# EAGLE library part 74*4059 (library df4iah_74xxx)
74HC(T)4059 - BCD divider
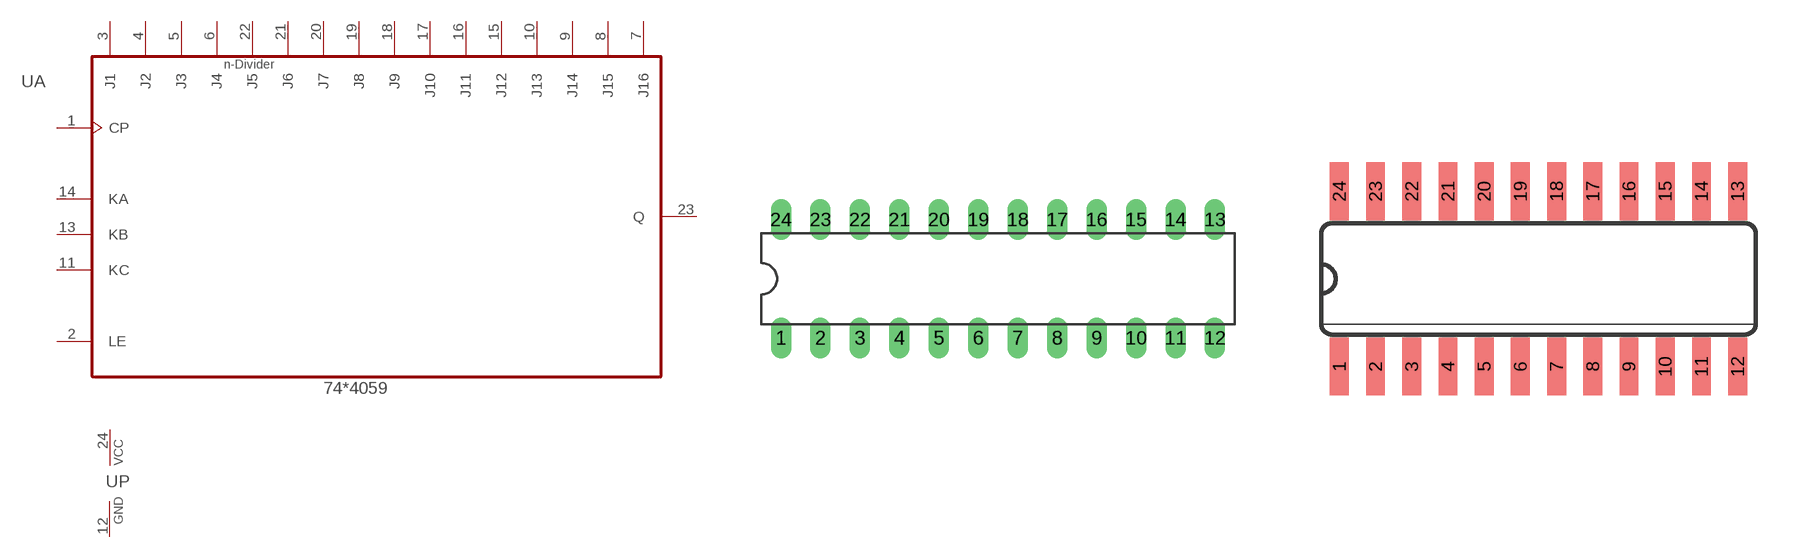
[diagram p17: symbol with the pads of DIL24; footprints DIL24, SO24]

Designator prefix U; gates A=744059 P=PWRN

## 744059N  [DIL24]
1  A:CP  in
2  A:LE  in
3  A:J1  in
4  A:J2  in
5  A:J3  in
6  A:J4  in
7  A:J16  in
8  A:J15  in
9  A:J14  in
10  A:J13  in
11  A:KC  in
12  P:GND  pwr
13  A:KB  in
14  A:KA  in
15  A:J12  in
16  A:J11  in
17  A:J10  in
18  A:J9  in
19  A:J8  in
20  A:J7  in
21  A:J6  in
22  A:J5  in
23  A:Q  out
24  P:VCC  pwr

## 744059M  [SO24]
Pads as for DIL24

## Footprint DIL24 (pad centres in mm)
Dual In Line Package
drill 0.813 long: 1 -13.97,-3.81; 2 -11.43,-3.81; 3 -8.89,-3.81; 4 -6.35,-3.81; 5 -3.81,-3.81; 6 -1.27,-3.81; 7 1.27,-3.81; 8 3.81,-3.81; 9 6.35,-3.81; 10 8.89,-3.81; 11 11.43,-3.81; 12 13.97,-3.81; 13 13.97,3.81; 14 11.43,3.81; 15 8.89,3.81; 16 6.35,3.81; 17 3.81,3.81; 18 1.27,3.81; 19 -1.27,3.81; 20 -3.81,3.81; 21 -6.35,3.81; 22 -8.89,3.81; 23 -11.43,3.81; 24 -13.97,3.81

## Footprint SO24 (pad centres in mm)
Small Outline package 150 mil
smd 0.66 x 2.032: 1 -6.985,-3.073; 2 -5.715,-3.073; 3 -4.445,-3.073; 4 -3.175,-3.073; 5 -1.905,-3.073; 6 -0.635,-3.073; 7 0.635,-3.073; 8 1.905,-3.073; 9 3.175,-3.073; 10 4.445,-3.073; 11 5.715,-3.073; 12 6.985,-3.073; 13 6.985,3.073; 14 5.715,3.073; 15 4.445,3.073; 16 3.175,3.073; 17 1.905,3.073; 18 0.635,3.073; 19 -0.635,3.073; 20 -1.905,3.073; 21 -3.175,3.073; 22 -4.445,3.073; 23 -5.715,3.073; 24 -6.985,3.073